# EAGLE library part MS5607-02BA03 (library SENSOR)
MS5607-02BA03 Barometric Pressure Sensor, with stainless steel cap Datasheet <http://www.meas-spec.com/downloads/MS5607-02BA03.pdf> PS pin: High = I2C Low = SPI
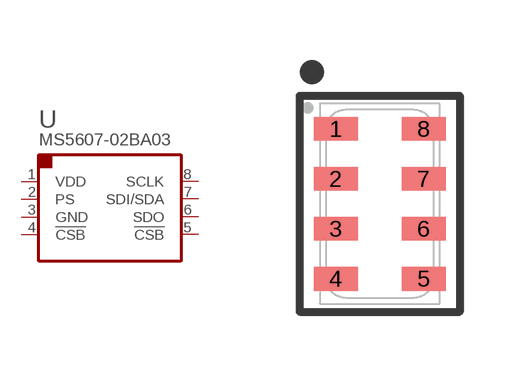
[diagram p0: symbol with the pads of QFN8_5X3MM; footprint QFN8_5X3MM]

Designator prefix U

## MS5607-02BA03 (MFPN: MS560702BA03; PARTNO: 16-100084-00)  [QFN8_5X3MM]
1  VDD  pwr
2  PS  in
3  GND  pwr
4  !CSB  in
5  !CSB  in
6  SDO  out
7  SDI/SDA
8  SCLK  in

## Footprint QFN8_5X3MM (pad centres in mm)
QFN-8 5.0mm x 3.0mm
smd 1.1 x 0.6: 1 -1.1,1.875; 2 -1.1,0.625; 3 -1.1,-0.625; 4 -1.1,-1.875; 5 1.1,-1.875; 6 1.1,-0.625; 7 1.1,0.625; 8 1.1,1.875